# Altium schematic symbol library controle de luminosidade com ESP32.SchLib: 22 symbols
Pins are listed as number, name and electrical type; pins without a type are passive.

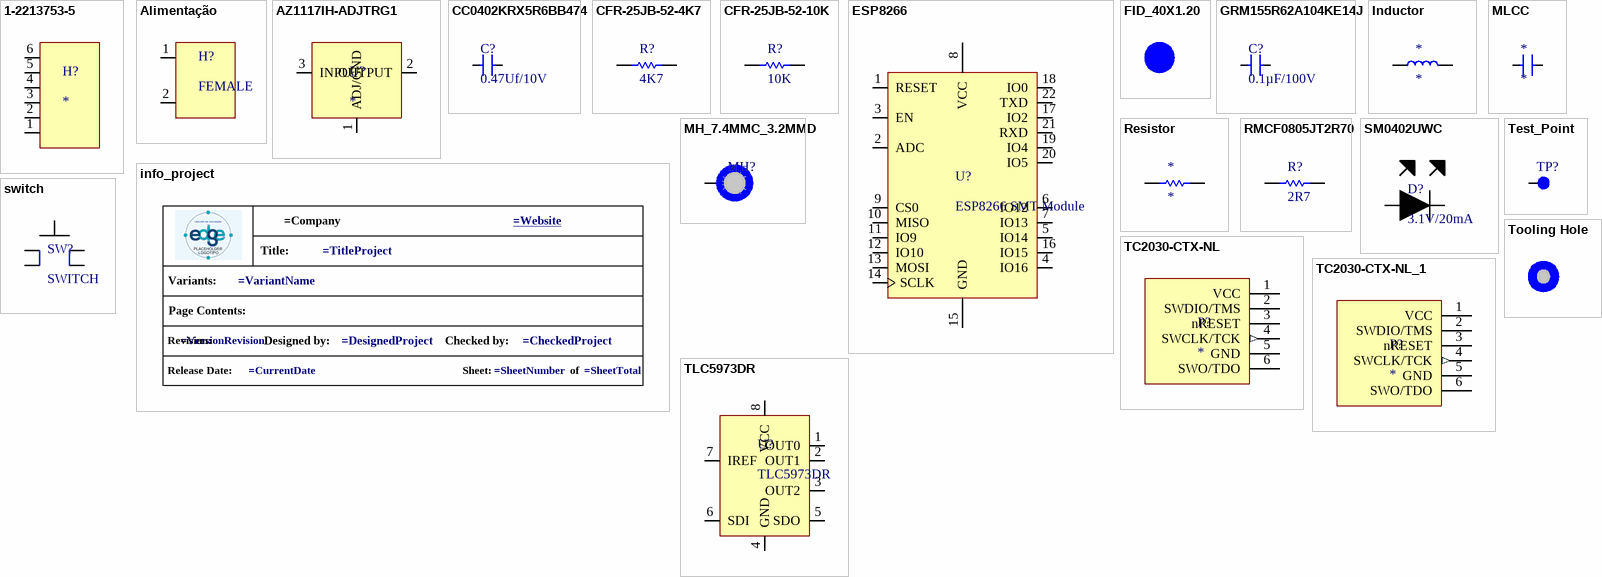
[diagram p0: symbols 1-2213753-5 to Tooling Hole]

## 1-2213753-5
designator H?
CONN - HEADER 6 pins; Manufacturer 1: TE Connectivity; Manufacturer Part Number 1: 1-2213753-5; Supplier 1: Mouser; Stock 1: 2922; Pricing 1: 1=1.55000, 10=1.27000, 50=1.27000, 100=1.09000, 1000=0.86200, 10000=0.74800 (USD); RoHS: Yes; RoHS Compliant: Yes; Supplier Part Number 1: 571-1-2213753-5
pins: 1, 2, 3, 4, 5, 6

## Alimentação
designator H?, comment FEMALE
.SCHChecked: *
pins: 1   1, 2  2

## AZ1117IH-ADJTRG1
designator U?
IC - REG LINEAR 3.3V 1A SOT223; Manufacturer 1: Diodes; Manufacturer Part Number 1: AZ1117IH-ADJTRG1; Description: Low Dropout Linear Regulator With Industrial Temperature Range; Output Voltage: 1.25V; Output Current: 800mA; Dropout Voltage: 1.2V; Number of Regulators: 1; Supplier 1: Digi-Key; Stock 1: 2103; Pricing 1: 1=0.38000, 10=0.30500, 25=0.27960, 100=0.20790, 250=0.18844, 500=0.15594, 1000=0.11696 (USD); RoHS: Yes; Mount: Surface Mount; Case/Package: TO-261-4; Min Operating Temperature: -40°C; Max Operating Temperature: 125°C; Packaging: Tape and Reel; Min Current Limit: 1A; RoHS Compliant: Yes; ComponentLink1URL: https://www.diodes.com/assets/Datasheets/AZ1117I.pdf?src-supplier=Digi-Key; ComponentLink1Description: https://www.diodes.com/assets/Datasheets/AZ1117I.pdf?src-supplier=Digi-Key; Supplier Part Number 1: AZ1117IH-ADJTRG1DICT-ND
footprint SOT230P700X170-4N (SOT223, 4-Leads, Body 6.50x7.00mm (avg), Pitch 2.30mm, IPC Medium Density)
pins: 1 ADJ/GND, 2 OUTPUT, 3 INPUT

## CC0402KRX5R6BB474
designator C?, comment 0.47Uf/10V
MLCC- CAP CER 0.47UF 10V X5R 0402; Supplier 1: Digi-Key; Supplier Part Number 1: 1276-1173-1-ND
footprint C0402
pins: 1, 2

## CFR-25JB-52-4K7
designator R?, comment 4K7
RES 4.7K OHM 1/4W 5% AXIAL; Manufacturer 1: Yageo; Manufacturer Part Number 1: CFR-25JB-52-4K7; Resistance: 4.7kR; Power Rating: 250mW; Temperature Coefficient: 500ppm/°C; Supplier 1: Digi-Key; Stock 1: 122217; Pricing 1: 1=0.10000, 10=0.06700, 25=0.04640, 50=0.03600, 100=0.02580, 250=0.02008, 500=0.01596, 1000=0.01133, 5000=0.00876 (USD); RoHS: Yes; Case/Package: Axial; Min Operating Temperature: -55°C; Max Operating Temperature: 155°C; Tolerance: 5%; Package Quantity: 200; Packaging: Bulk; Resistor Type: Carbon Film; Number of Terminations: 2; Max Power Dissipation: 250mW; Series: Carbon Film; Length: 0.248inch; Lead Free: Lead Free; RoHS Compliant: Yes; ComponentLink1URL: http://www.yageo.com/NewPortal/yageodocoutput?fileName=/pdf/throughhole/Yageo_LR_CFR_2013.pdf&src-supplier=Digi-Key; ComponentLink1Description: http://www.yageo.com/NewPortal/yageodocoutput?fileName=/pdf/throughhole/Yageo_LR_CFR_2013.pdf&src-supplier=Digi-Key; ComponentLink2URL: http://www.yageo.com/documents/recent/General%20Type_CFR.pdf?src-supplier=Future+Electronics; ComponentLink2Description: http://www.yageo.com/documents/recent/General%20Type_CFR.pdf?src-supplier=Future+Electronics; Supplier Part Number 1: 4.7KQBK-ND
footprint R0402
pins: 1, 2

## CFR-25JB-52-10K
designator R?, comment 10K
RES 10K OHM 1/4W 5% AXIAL; Manufacturer 1: Yageo; Manufacturer Part Number 1: CFR-25JB-52-10K; Resistance: 10kR; Temperature Coefficient: 500ppm/°C; Max Power Dissipation: 250mW; Supplier 1: Digi-Key; Stock 1: 275987; Pricing 1: 1=0.10000, 10=0.06700, 25=0.04640, 50=0.03600, 100=0.02580, 250=0.02008, 500=0.01596, 1000=0.01133, 5000=0.00876 (USD); RoHS: Yes; Case/Package: Axial; Min Operating Temperature: -55°C; Max Operating Temperature: 155°C; Package Quantity: 200; Packaging: Bulk; Tolerance: 5%; Resistor Type: Carbon Film; Number of Terminations: 2; Series: Carbon Film; Length: 0.248inch; RoHS Compliant: Yes; Lead Free: Lead Free; ComponentLink1URL: http://components.arrow.com/part/dataview/0323_07021247?src-supplier=Arrow+Europe; ComponentLink1Description: http://components.arrow.com/part/dataview/0323_07021247?src-supplier=Arrow+Europe; ComponentLink2URL: http://www.yageo.com/NewPortal/yageodocoutput?fileName=/pdf/throughhole/Yageo_LR_CFR_2013.pdf&src-supplier=Digi-Key; ComponentLink2Description: http://www.yageo.com/NewPortal/yageodocoutput?fileName=/pdf/throughhole/Yageo_LR_CFR_2013.pdf&src-supplier=Digi-Key; Supplier Part Number 1: 10KQBK-ND
footprint C0603
pins: 1, 2

## ESP8266
designator U?, comment ESP8266 SMT Module
IC - ESP8266 SMT Module / WiFi 802.11b/g/n Transceiver Module 2.4GHz ~ 2.5GHz Integrated, Trace Surface Mount; Supplier 1: Digi-Key; Supplier Part Number 1: 1528-1438-ND
footprint XCVR_ESP8266-12E/ESP-12E
pins: 1 RESET, 2 ADC, 3 EN, 4 IO16, 5 IO14, 6 IO12, 7 IO13, 8 VCC, 9 CS0, 10 MISO, 11 IO9, 12 IO10, 13 MOSI, 14 SCLK, 15 GND, 16 IO15, 17 IO2, 18 IO0, 19 IO4, 20 IO5, 21 RXD, 22 TXD

## FID_40X1.20
designator FID?  (value not drawn)  (no BOM)
Fiducials
footprint FID_40X1.20

## GRM155R62A104KE14J
designator C?, comment 0.1µF/100V
MLCC - 0.1µF 100V 0402 X5R ±10%; Manufacturer 1: Murata; Manufacturer Part Number 1: GRM155R62A104KE14J; Capacitance: 100nF; Parameter 1: .SCHChecked; Supplier 1: Mouser; Stock 1: 113201; Pricing 1: 1=0.10000, 10=0.03400, 50=0.03400, 100=0.01500, 1000=0.00900, 10000=0.00600 (USD); RoHS: Yes; Case/Package: 0402; Voltage Rating (DC): 100V; Dielectric: X5R; Tolerance: 10%; Length: 1mm; Width: 500um; Thickness: 500um; RoHS Compliant: Yes; ComponentLink1URL: https://www.mouser.com/ds/2/281/c02e-2905.pdf?src-supplier=Mouser; ComponentLink1Description: https://www.mouser.com/ds/2/281/c02e-2905.pdf?src-supplier=Mouser; Supplier Part Number 1: 81-GRM155R62A104KE4J
footprint C0402
pins: 1, 2

## Inductor
designator *
footprint INDC6060X300
pins: 1, 2

## info_project
designator GPH?  (value not drawn)  (graphical)
GRAPHICAL - Info Project
text: Title:; Variants:; Page Contents:; Revision:; Designed by:; Checked by:; Release Date:; Sheet:; of

## MH_7.4MMC_3.2MMD
designator MH?  (value not drawn)  (no BOM)
Mounting Hole 7.4mm Diameter 3.2mm Drill
footprint MH_7.4MMC_3.2MMD
pins: 1

## MLCC
designator *
footprint C0402
pins: 1, 2

## Resistor
designator *
footprint R0805
pins: 1, 2

## RMCF0805JT2R70
designator R?, comment 2R7
RES -  2.7 OHM 1/8W 5% 0805; Manufacturer 1: Stackpole Electronics; Manufacturer Part Number 1: RMCF0805JT2R70; Resistance: 2.7R; Max Power Dissipation: 125mW; Temperature Coefficient: 200ppm/°C; Supplier 1: Digi-Key; Stock 1: 439; Pricing 1: 1=0.10000, 10=0.02000, 100=0.00810, 1000=0.00366, 2500=0.00318 (USD); RoHS: Yes; Mount: Surface Mount; Case/Package: 0805; Case Code (Metric): 2012; Case Code (Imperial): 0805; Contact Plating: Tin,Matte; Min Operating Temperature: -55°C; Max Operating Temperature: 155°C; Packaging: Tape and Reel; Tolerance: 5%; Resistor Type: Thick Film; Number of Terminations: 2; Features: Automotive AEC-Q200; Series: RMCF; Length: 0.079inch; Width: 0.049inch; Height: 0.026inch; Radiation Hardening: No; RoHS Compliant: Yes; ComponentLink1URL: http://components.arrow.com/part/dataview/50862679S7247335N1174?src-supplier=Arrow+Electronics; ComponentLink1Description: http://components.arrow.com/part/dataview/50862679S7247335N1174?src-supplier=Arrow+Electronics; ComponentLink2URL: https://www.seielect.com/catalog/sei-rmcf_rmcp.pdf?src-supplier=Digi-Key; ComponentLink2Description: https://www.seielect.com/catalog/sei-rmcf_rmcp.pdf?src-supplier=Digi-Key; ComponentLink3URL: https://www.seielect.com/catalog/SEI-Packaging.pdf?src-supplier=Digi-Key; ComponentLink3Description: https://www.seielect.com/catalog/SEI-Packaging.pdf?src-supplier=Digi-Key; ComponentLink4URL: https://www.seielect.com/catalog/SEI-RMCF_RMCP.pdf?src-supplier=Avnet; ComponentLink4Description: https://www.seielect.com/catalog/SEI-RMCF_RMCP.pdf?src-supplier=Avnet; Supplier Part Number 1: 738-RMCF0805JT2R70CT-ND; .SCHChecked: *
footprint R0805
pins: 1, 2

## SM0402UWC
designator D?, comment 3.1V/20mA
LED -  LED WHITE DIFFUSED 0402 SMD; Supplier 1: Digi-Key; Supplier Part Number 1: 492-2209-1-ND; .PCBChecked: *; .SCHChecked: *
footprint WHITE_LED
pins: 1, 2

## switch
designator SW?, comment SWITCH
SWITCH - 4 PINS
footprint switch
pins: SW1 1, SW1 3, SW1 2, SW1 4

## TC2030-CTX-NL
designator P?  (no BOM)
6 pin Tag-Connect; .SCHChecked: Alex Batista; .PCBChecked: Alex Batista
footprint TC2030-CTX-NL
pins: 1 VCC, 2 SWDIO/TMS, 3 nRESET, 4 SWCLK/TCK (out), 5 GND, 6 SWO/TDO

## TC2030-CTX-NL_1
designator P?  (no BOM)
6 pin Tag-Connect; .SCHChecked: Alex Batista; .PCBChecked: Alex Batista
footprint TC2030-CTX-NL
pins: 1 VCC, 2 SWDIO/TMS, 3 nRESET, 4 SWCLK/TCK (out), 5 GND, 6 SWO/TDO

## Test_Point
designator TP?, comment TestPoint  (value not drawn)  (no BOM)
MECH - Test Points
footprint Test Point
pins: 1

## TLC5973DR 
designator U?, comment TLC5973DR
IC - LED DRIVER LINEAR 50MA 8SOIC; Manufacturer 1: Texas Instruments; Description: IC LED DRIVER LINEAR 50MA 8SOIC; Topology: Boost; Output Voltage: 21V; Max Supply Current: 10mA; High Level Output Current: -2mA; Operating Supply Voltage: 5V; Number of Channels: 3; Min Input Voltage: 3V; Max Supply Voltage: 6V; Switching Frequency: 12MHz; Supplier 1: Mouser; Manufacturer Part Number 1: TLC5973DR; Stock 1: 506; Pricing 1: 1=0.79000, 10=0.69300, 50=0.69300, 100=0.53100, 1000=0.33600, 10000=0.30400 (USD); RoHS: Yes; Mount: Surface Mount; Case/Package: SOIC; Number of Pins: 8; Contact Plating: Gold; Min Operating Temperature: -40°C; Max Operating Temperature: 125°C; Output Current: 50mA; Output Current per Channel: 50mA; Low Level Output Current: 50mA; Packaging: Tape and Reel; Nominal Supply Current: 10mA; Nominal Input Voltage (DC): 5V; Min Supply Voltage: 3V; Max Output Voltage: 21V; Max Input Voltage: 6V; Package Quantity: 2500; Max Output Current: 50mA; Number of Outputs: 3; Frequency: 12MHz; Radiation Hardening: No; Lead Free: Lead Free; ComponentLink1URL: https://datasheet.ciiva.com/15135/getdatasheetpartid-724334-15135896.pdf?src-supplier=Verical; ComponentLink1Description: https://datasheet.ciiva.com/15135/getdatasheetpartid-724334-15135896.pdf?src-supplier=Verical; ComponentLink2URL: https://datasheet.ciiva.com/46636/tlc5973-46636603.pdf?src-supplier=Digi-Key; ComponentLink2Description: https://datasheet.ciiva.com/46636/tlc5973-46636603.pdf?src-supplier=Digi-Key; Supplier Part Number 1: 595-TLC5973DR
pins: 1 OUT0, 2 OUT1, 3 OUT2, 4 GND, 5 SDO, 6 SDI, 7 IREF, 8 VCC

## Tooling Hole
designator TH?  (value not drawn)  (no BOM)
MECH - Tooling Holes
footprint Tooling Hole